# EAGLE library part DOUBLE_ISO (library myrra)
Two isolated Outputs Input voltage range: 85 to 265 V AC or 85 to 370 V DC Input frequency: 47 to 440 Hz Output voltage accuracy: see table for 10 to 100% rated load of each output (includes line and load variations) Operating ambient temperature: - 25°C / + Ta (see table) No load input power < 200mW regulated: Output 1 Output 1 Power Output 1 Efficiency Ta Reference Output 2 Output 2 (max W) Output 2 (%) (°C) (DC Volts) (DC mA) accuracy 47252 5 350 (600max) 3.5 ±3% 66 +60 5 350 max ±15% 47254 12 165 (300max) 4 ±5% 72 +60 12 165 max ±15% 47255 15 135 (200max) 4 ±5% 73 +60 15 135 max ±15% 47257 5 400 (600max) 4 ±3% 68 +60 12 170 max ±15% 47258 18 150 (200max) 4 ±5% 72 +60 8 150 max ±15% Source: http://www.myrra.com
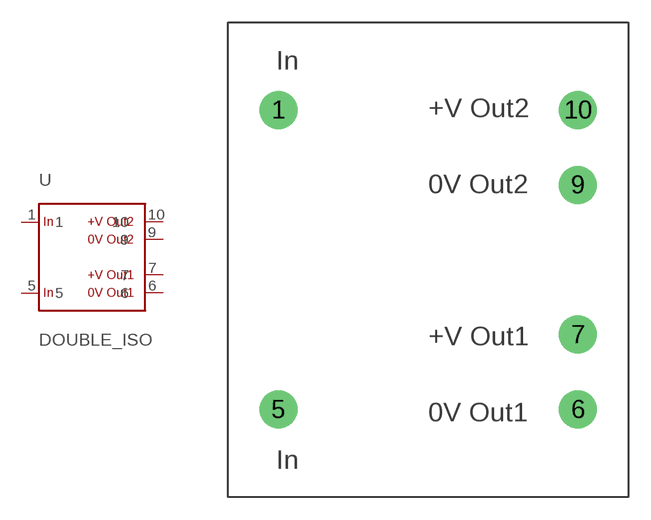
[diagram p0: symbol with the pads of 2ISO; footprint 2ISO]

Designator prefix -

## DOUBLE_ISO  [2ISO]
1  1  in
5  5  in
6  6  out
7  7  out
9  9  out
10  10  out

## Footprint 2ISO (pad centres in mm)
drill 1 pad 2.54 round: 1 -10,10; 5 -10,-10; 6 10,-10; 7 10,-5; 9 10,5; 10 10,10